# EAGLE library part 750315039 (library Wurth Electronics Midcom Inc - EAGLE Lib V2-1)
Package Style: EFD20 Mounting: SMD Pins: 12 pins Bobbin: 070-5899 Best pinouts for production vary per application. Please contact Wurth Electronics Midcom, Inc. for assistance with your custom design. Website: Wurth Electronics Midcom <http://www.we-online.com/midcom> Contact us Wurth Electronics Midcom, Inc. 121 Airport Dr. Watertown, SD 57201 Phone: (605) 886-4385 Fax: (605) 886-4486 E-Mail: midcom@we-online.com
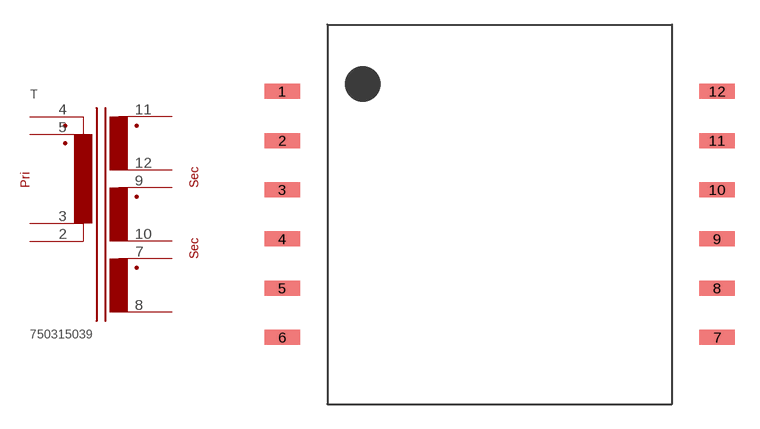
[diagram p146: symbol with the pads of EFD20_SMD_H_12PIN_(5899); footprint EFD20_SMD_H_12PIN_(5899)]

Designator prefix T

## 750315039  [EFD20_SMD_H_12PIN_(5899)]
2  2  pas
3  3  pas
4  4  pas
5  5  pas
7  7  pas
8  8  pas
9  9  pas
10  10  pas
11  11  pas
12  12  pas

## Footprint EFD20_SMD_H_12PIN_(5899) (pad centres in mm)
Package Style: EFD20 Mounting: SMD Pins: 12 Bobbin: 070-5899
smd 2.159 x 0.914: 1 -13.259,7.493; 2 -13.259,4.496; 3 -13.259,1.499; 4 -13.259,-1.499; 5 -13.259,-4.496; 6 -13.259,-7.493; 7 13.259,-7.493; 8 13.259,-4.496; 9 13.259,-1.499; 10 13.259,1.499; 11 13.259,4.496; 12 13.259,7.493